# Altium integrated library SDcard.IntLib: 1 symbol
Pins are listed as number, name and electrical type; pins without a type are passive.

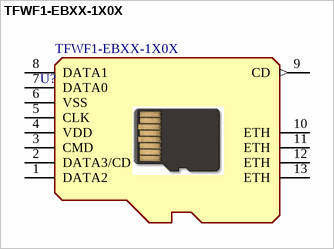
[diagram p0: symbol TFWF1-EBXX-1X0X]

## TFWF1-EBXX-1X0X
designator U?
T-Flash 8pin SMT; Manufacturer: Wellco T&C Co., Ltd.; Link to Datasheet: *; Link to Picture: *; Operating Temp: *; Rating: *; Stability Frequency: *; Storage Temp: *; Tolerance: *; ComponentLink1Description: *; ComponentLink1URL: *; Manufacture Part #: TFWF1-EBXX-1X0X; Value: TFWF1-EBXX-1X0X
footprint TFWF1-EBXX-1X0X (T-FLASH PUSH-PUSH)
pins: 1 DATA2, 2 DATA3/CD, 3 CMD, 4 VDD, 5 CLK, 6 VSS, 7 DATA0, 8 DATA1, 9 CD (out), 10 ETH, 11 ETH, 12 ETH, 13 ETH
text: Card Bottom View